# EAGLE library part DF17(2.0)-30DP-0.5V (library con-hirose)
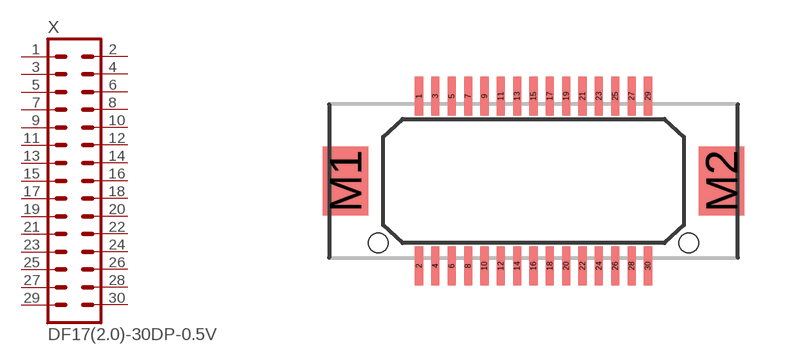
[diagram p0: symbol with the pads of DF17(2.0)-30DP-0.5V; footprint DF17(2.0)-30DP-0.5V]

Designator prefix X

## DF17(2.0)-30DP-0.5V  [DF17(2.0)-30DP-0.5V]
1  1  pas
2  2  pas
3  3  pas
4  4  pas
5  5  pas
6  6  pas
7  7  pas
8  8  pas
9  9  pas
10  10  pas
11  11  pas
12  12  pas
13  13  pas
14  14  pas
15  15  pas
16  16  pas
17  17  pas
18  18  pas
19  19  pas
20  20  pas
21  21  pas
22  22  pas
23  23  pas
24  24  pas
25  25  pas
26  26  pas
27  27  pas
28  28  pas
29  29  pas
30  30  pas

## Footprint DF17(2.0)-30DP-0.5V (pad centres in mm)
60 pin connector PN: DF12D(3.0)-60DP-0.5V Hirose Electric Co.
smd 0.25 x 1.2: 1 -3.5,2.6; 2 -3.5,-2.6; 3 -3,2.6; 4 -3,-2.6; 5 -2.5,2.6; 6 -2.5,-2.6; 7 -2,2.6; 8 -2,-2.6; 9 -1.5,2.6; 10 -1.5,-2.6; 11 -1,2.6; 12 -1,-2.6; 13 -0.5,2.6; 14 -0.5,-2.6; 15 0,2.6; 16 0,-2.6; 17 0.5,2.6; 18 0.5,-2.6; 19 1,2.6; 20 1,-2.6; 21 1.5,2.6; 22 1.5,-2.6; 23 2,2.6; 24 2,-2.6; 25 2.5,2.6; 26 2.5,-2.6; 27 3,2.6; 28 3,-2.6; 29 3.5,2.6; 30 3.5,-2.6
smd 1.4 x 2.1: M1 -5.75,0; M2 5.75,0
hole 0.6 at -4.75,-1.9
hole 0.6 at 4.75,-1.9